# EAGLE library part TUSB211QRWBRQ1 (library My_TI)
TUSB211 USB 2.0 High Speed Signal Conditioner Compatible with USB 2.0, OTG 2.0 and BC 1.2 Active Power Consumption of 55 mW (Typical) with 3.3-V Single Supply Datasheet <http://www.ti.com/lit/ds/symlink/tusb211-q1.pdf>
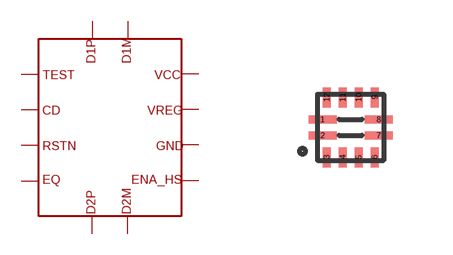
[diagram p21: symbol with the pads of X2QFN; footprint X2QFN]

Designator prefix USB

## TUSB211QRWBRQ1  [X2QFN]
1  P$1
2  P$2
3  P$3
4  P$4
5  P$5
6  P$6
7  P$7
8  P$8
9  P$9
10  P$10
11  P$11
12  P$12

## Footprint X2QFN (pad centres in mm)
smd 0.7 x 0.2: 1 -0.7,0.2; 2 -0.7,-0.2; 7 0.7,-0.2; 8 0.7,0.2
smd 0.2 x 0.5: 3 -0.6,-0.75; 4 -0.2,-0.75; 5 0.2,-0.75; 6 0.6,-0.75; 9 0.6,0.75; 10 0.2,0.75; 11 -0.2,0.75; 12 -0.6,0.75